# Altium schematic symbol library HerosLib.SchLib: 177 symbols (part 10 of 10)
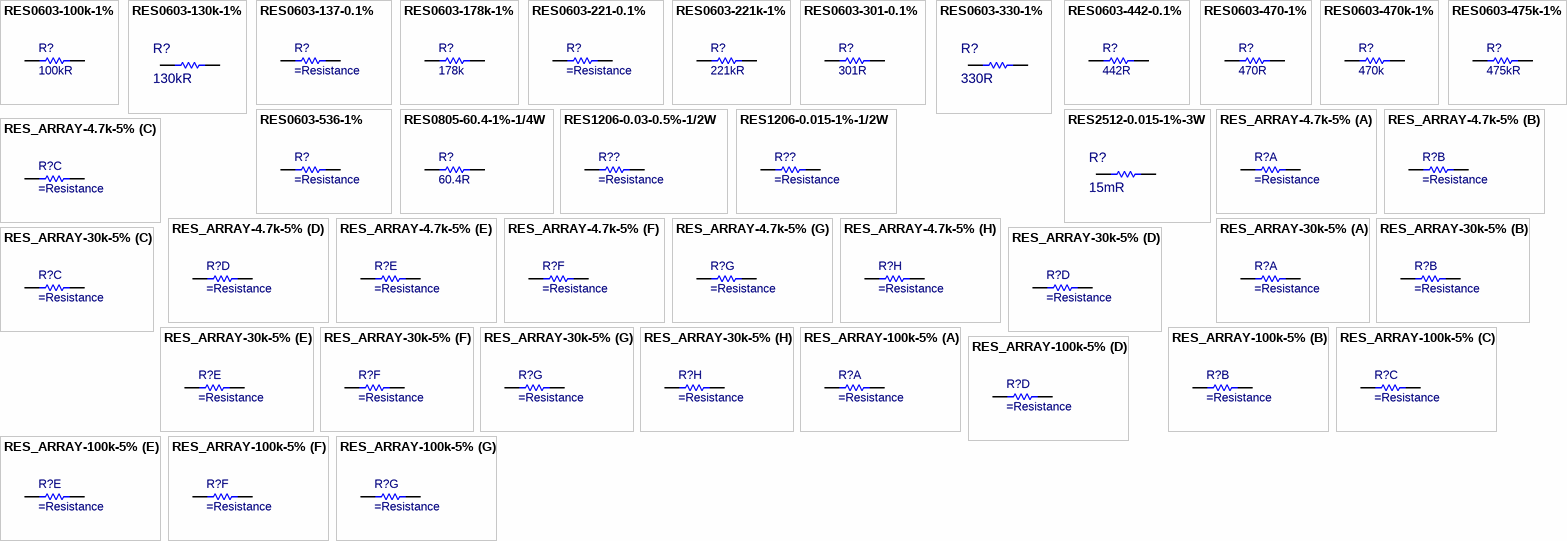
[diagram p17: symbols RES0603-100k-1% to RES_ARRAY-100k-5%]

## RES2512-0.015-1%-3W
designator R?, comment 15mR
RES 0.015 OHM 1% 3W 2512; Manufacturer: Bourns; Manufacturer Part Number: CRA2512-FZ-R015ELF; Temperature Coefficient: 75ppm/°C; Supplier 1: Digi-Key; RoHS: No; Category: Chip SMD Resistors; Stock 1: 20650; Pricing 1: 1=0.58000, 10=0.44800, 25=0.34120, 50=0.25360, 100=0.18850, 250=0.15924, 500=0.13650, 1000=0.10400 (USD); Mount: Surface Mount; Case/Package: 2512; Case Code (Metric): 6432; Case Code (Imperial): 2512; Min Operating Temperature: -55°C; Max Operating Temperature: 170°C; Resistor Type: Metal Film,Thick Film; Max Power Dissipation: 3W; Number of Terminations: 2; Termination: Solder; Features: Moisture Resistant; Resistance: 15mR; Power Rating: 3W; Tolerance: 1%; Packaging: Tape and Reel; Package Quantity: 1; Length: 0.254inch; Width: 0.126inch; Height: 0.035inch; Depth: 3.2mm; Lead Free: Lead Free; Military Standard: Not; REACH SVHC: No SVHC; ComponentLink1URL: https://datasheet.ciiva.com/11809/0900766b80ddce06-11809887.pdf?src-supplier=RSComponents; ComponentLink1Description: https://datasheet.ciiva.com/11809/0900766b80ddce06-11809887.pdf?src-supplier=RSComponents; ComponentLink2URL: https://datasheet.ciiva.com/6548/cra-6548395.pdf?src-supplier=Digi-Key; ComponentLink2Description: https://datasheet.ciiva.com/6548/cra-6548395.pdf?src-supplier=Digi-Key; ComponentLink3URL: https://datasheet.ciiva.com/6548/cra-6548411.pdf?src-supplier=Digi-Key; ComponentLink3Description: https://datasheet.ciiva.com/6548/cra-6548411.pdf?src-supplier=Digi-Key; ComponentLink4URL: https://datasheet.ciiva.com/6548/cra-6548413.pdf?src-supplier=Digi-Key; ComponentLink4Description: https://datasheet.ciiva.com/6548/cra-6548413.pdf?src-supplier=Digi-Key; ComponentLink5URL: https://datasheet.ciiva.com/48692/001055548-da-01-en-wid-cra2512-fz-r015elf-0-015-ohm-3w-1-48692039.pdf?src-supplier=Conrad; ComponentLink5Description: https://datasheet.ciiva.com/48692/001055548-da-01-en-wid-cra2512-fz-r015elf-0-015-ohm-3w-1-48692039.pdf?src-supplier=Conrad; Supplier Part Number 1: CRA2512-FZ-R015ELFCT-ND
footprint R2512 (0.254" L x 0.132" W (6.45mm x 3.35mm))
pins: 1, 2

## RES_ARRAY-4.7k-5%
designator R?
RES ARRAY 8 RES 4.7K OHM 1606; Manufacturer: Yageo; Manufacturer Part Number: YC248-FR-074K7L; Resistance: 4.7kR; Value: 4.7kR; Tolerance: 1%; Circuit Type: Isolated; Number of Resistors: 8; Power Per Element: 62.5mW; Temperature Coefficient: 200ppm/°C; Supplier: Digikey; Supplier Part Number: 13-YC248-FR-074K7LCT-ND; RoHS: Yes; Category: Resistor Arrays; Stock: 883; Pricing: 1=0,44, 10=0,246, 25=0,198, 50=0,169, 100=0,1448, 250=0,11888, 500=0,10302, 1000=0,08976 (USD); Mounting Technology: Surface Mount; Pins: 16; Min Operating Temperature: -55°C; Max Operating Temperature: 155°C; Packaging: Tape and Reel; Number of Circuits: 8; Series: YC248; RoHS Compliant: Yes; ComponentLink1URL: https://media.digikey.com/pdf/Data%20Sheets/Yageo%20PDFs/YC102-358,TC122-164_Series_DS.pdf?src-supplier=Digikey; ComponentLink1Description: https://media.digikey.com/pdf/Data%20Sheets/Yageo%20PDFs/YC102-358,TC122-164_Series_DS.pdf?src-supplier=Digikey; Supplier 1: Digikey; Supplier Part Number 1: 13-YC248-FR-074K7LCT-ND
footprint 8RES_ARRAY_YC248 (Chip Resistor Surface Mount, 8 Resistors, 4x1.6mm)
part A pins: 1, 16
part B pins: 2, 15
part C pins: 3, 14
part D pins: 4, 13
part E pins: 5, 12
part F pins: 6, 11
part G pins: 7, 10
part H pins: 8, 9

## RES_ARRAY-30k-5%
designator R?
RES ARRAY 8 RES 30K OHM 1606; Manufacturer: Yageo Group; Manufacturer Part Number: YC248-FR-0730KL; Resistance: 30kR; Value: 30kR; Circuit Type: Isolated; Number of Circuits: 8; Number of Elements: 1; Power Dissipation: 62.5mW; Temperature Coefficient: 200ppm/°C; Tolerance: 1%; Working Voltage: 50V; Supplier 1: DigiKey; Supplier Part Number 1: YC248-FR-0730KL-ND; Supplier: DigiKey; Supplier Part Number: YC248-FR-0730KL-ND; RoHS: Compliant; Category: Resistor Arrays; Pricing: 5000=0,0667 (USD); Case/Package: 0616; China RoHS: Non-Compliant; Height: 450µm; Length: 3.9878mm; Lifecycle Status: Production; Max Operating Temperature: 155°C; Min Operating Temperature: -55°C; Mounting Technology: Surface Mount; Pins: 16; Number of Resistors: 8; Number of Terminals: 16; Packaging: Tape & Reel; Power Per Element: 62.5mW; REACH SVHC: Yes; Width: 1.6mm; ComponentLink1URL: https://datasheet.octopart.com:443/YC248-FR-0730KL-Yageo-Group-datasheet-182189746.pdf?src-supplier=IHS; ComponentLink1Description: https://datasheet.octopart.com:443/YC248-FR-0730KL-Yageo-Group-datasheet-182189746.pdf?src-supplier=IHS; ComponentLink2URL: https://datasheet.octopart.com:443/YC248-FR-0730KL-Yageo-datasheet-165271777.pdf?src-supplier=IHS; ComponentLink2Description: https://datasheet.octopart.com:443/YC248-FR-0730KL-Yageo-datasheet-165271777.pdf?src-supplier=IHS; ComponentLink3URL: https://datasheet.octopart.com/YC248-FR-0730KL-Yageo-datasheet-10911670.pdf; ComponentLink3Description: https://datasheet.octopart.com/YC248-FR-0730KL-Yageo-datasheet-10911670.pdf; ComponentLink4URL: http://sigma.octopart.com:80/conflict_mineral_statement/Yageo-company-3.pdf?src-supplier=Compliance+Statements; ComponentLink4Description: http://sigma.octopart.com:80/conflict_mineral_statement/Yageo-company-3.pdf?src-supplier=Compliance+Statements; ComponentLink5URL: http://sigma.octopart.com:80/rohs_statement/Yageo-company-2.pdf?src-supplier=Compliance+Statements; ComponentLink5Description: http://sigma.octopart.com:80/rohs_statement/Yageo-company-2.pdf?src-supplier=Compliance+Statements
footprint 8RES_ARRAY_YC248 (Chip Resistor Surface Mount, 8 Resistors, 4x1.6mm)
part A pins: 1, 16
part B pins: 2, 15
part C pins: 3, 14
part D pins: 4, 13
part E pins: 5, 12
part F pins: 6, 11
part G pins: 7, 10
part H pins: 8, 9

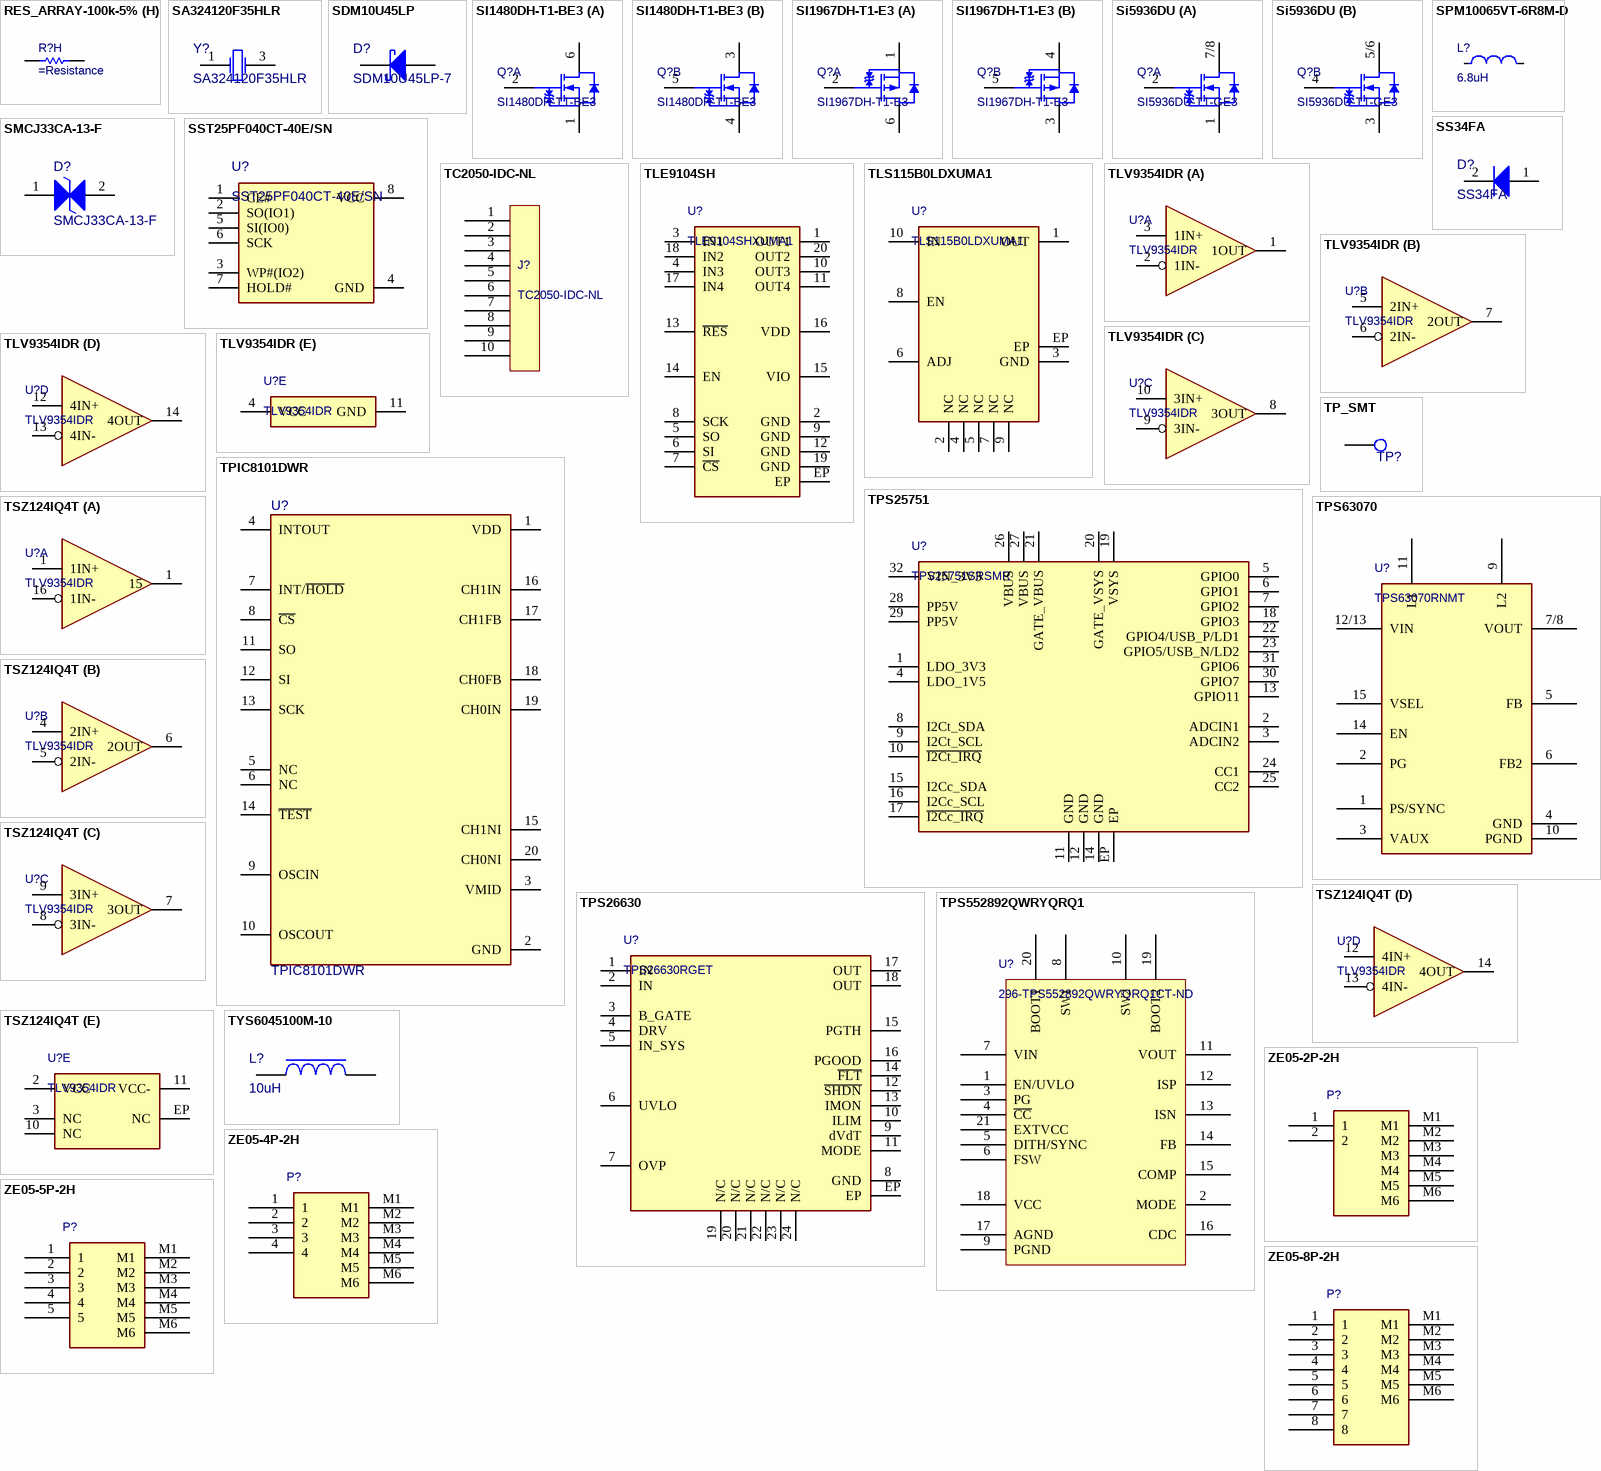
[diagram p8: symbols RES_ARRAY-100k-5% to ZE05-8P-2H]

## RES_ARRAY-100k-5%
designator R?
RES ARRAY 8 RES 100K OHM 1606; Manufacturer: Yageo; Manufacturer Part Number: YC248-FR-07100KL; Resistance: 100kR; Circuit Type: Isolated; Value: 100kR; Number of Resistors: 8; Power Per Element: 62.5mW; Tolerance: 1%; Temperature Coefficient: 200ppm/°C; Supplier: Digikey; Supplier Part Number: 13-YC248-FR-07100KLCT-ND; RoHS: Yes; Category: Resistor Arrays; Stock: 5000; Pricing: 1=0,44, 10=0,246, 25=0,198, 50=0,169, 100=0,1448, 250=0,11888, 500=0,10302, 1000=0,08976 (USD); Mounting Technology: Surface Mount; Case/Package: 0616; Pins: 16; Min Operating Temperature: -55°C; Max Operating Temperature: 155°C; Packaging: Tape and Reel; Number of Circuits: 8; Series: YC248; RoHS Compliant: Yes; ComponentLink1URL: https://media.digikey.com/pdf/Data%20Sheets/Yageo%20PDFs/YC102-358,TC122-164_Series_DS.pdf?src-supplier=Digikey; ComponentLink1Description: https://media.digikey.com/pdf/Data%20Sheets/Yageo%20PDFs/YC102-358,TC122-164_Series_DS.pdf?src-supplier=Digikey; Supplier 1: Digikey; Supplier Part Number 1: 13-YC248-FR-07100KLCT-ND
footprint 8RES_ARRAY_YC248 (Chip Resistor Surface Mount, 8 Resistors, 4x1.6mm)
part A pins: 1, 16
part B pins: 2, 15
part C pins: 3, 14
part D pins: 4, 13
part E pins: 5, 12
part F pins: 6, 11
part G pins: 7, 10
part H pins: 8, 9

## SA324120F35HLR
designator Y?
CRYSTAL 12.0000MHZ 12PF SMD; Manufacturer: CTS; Supplier 1: Digi-Key; Manufacturer Part Number: SA324120F35HLR; RoHS: Yes; Stock 1: 2994; Pricing 1: 1=0.51000, 10=0.42500, 50=0.38240, 100=0.34000, 500=0.32300, 1000=0.27200 (USD); Supplier Part Number 1: 110-SA324120F35HLRCT-ND; Case/Package: 4-SMD, No Lead
footprint SA324 (4-SMD, No Lead, 0.126" L x 0.098" W (3.20mm x 2.50mm))
pins: 1, 3

## SDM10U45LP
designator D?, comment SDM10U45LP-7
DIODE SCHOTTKY 40V 100MA 2DFN / Rectifier Diode Schottky 45V 0.1A 2-Pin X1-DFN T/R; Manufacturer: Diodes Inc.; Value: 15pF; Element Configuration: Single; Forward Voltage: 550mV; Max Forward Surge Current (Ifsm): 1A; Max Power Dissipation: 250mW; Number of Elements: 1; Peak Reverse Current: 1µA; Polarity: Standard; Supplier 1: DigiKey; Supplier Part Number 1: SDM10U45LPDICT-ND; Supplier: DigiKey; Supplier Part Number: SDM10U45LPDICT-ND; Manufacturer Part Number: SDM10U45LP-7; RoHS: Compliant; Category: Schottky Diodes; Stock: 35493; Pricing: 1=0,42, 10=0,28, 100=0,2285, 500=0,17242, 1000=0,15127 (USD); Average Rectified Current: 100mA; Case/Package: DFN; China RoHS: Compliant; Current Rating: 100mA; Forward Current: 100mA; Height: 470µm; Lead Free: Lead Free; Length: 1mm; Lifecycle Status: Production; Max Operating Temperature: 125°C; Max Output current: 100mA; Max Repetitive Reverse Voltage (Vrrm): 45V; Max Reverse Voltage (DC): 40V; Min Operating Temperature: -40°C; Mounting Technology: Surface Mount; Pins: 2; Number of Terminals: 2; Output Current: 100mA; Packaging: Cut Tape; Peak Non-Repetitive Surge Current: 1A; Power Rating: 250mW; Radiation Hardening: No; REACH SVHC: Yes; Reverse Standoff Voltage: 45V; Schedule B: 8541100070, 8541100070|8541100070, 8541100070|8541100070|8541100070, 8541100070|8541100070|8541100070|8541100070; Voltage Rating (DC): 45V; Width: 600µm; ComponentLink1URL: https://datasheet.octopart.com:443/SDM10U45LP-7-Diodes-Inc.-datasheet-102813284.pdf?src-supplier=IHS; ComponentLink1Description: https://datasheet.octopart.com:443/SDM10U45LP-7-Diodes-Inc.-datasheet-102813284.pdf?src-supplier=IHS; ComponentLink2URL: https://datasheet.octopart.com/SDM10U45LP-7-Diodes-Inc.-datasheet-13703157.pdf; ComponentLink2Description: https://datasheet.octopart.com/SDM10U45LP-7-Diodes-Inc.-datasheet-13703157.pdf; ComponentLink3URL: https://datasheet.octopart.com:443/SDM10U45LP-7-Diodes-Inc.-datasheet-101745850.pdf?src-supplier=Future+Electronics; ComponentLink3Description: https://datasheet.octopart.com:443/SDM10U45LP-7-Diodes-Inc.-datasheet-101745850.pdf?src-supplier=Future+Electronics; ComponentLink4URL: https://sigma.octopart.com:443/138891837/technical_drawing/Diodes-Inc.-SDM10U45LP-7.pdf?src-supplier=Diodes+Inc+SCT; ComponentLink4Description: https://sigma.octopart.com:443/138891837/technical_drawing/Diodes-Inc.-SDM10U45LP-7.pdf?src-supplier=Diodes+Inc+SCT; ComponentLink5URL: https://datasheet.octopart.com:443/SDM10U45LP-7-Diodes-Inc.-datasheet-11796308.pdf?src-supplier=Arrow+Electronics; ComponentLink5Description: https://datasheet.octopart.com:443/SDM10U45LP-7-Diodes-Inc.-datasheet-11796308.pdf?src-supplier=Arrow+Electronics; ComponentLink6URL: https://datasheet.octopart.com:443/SDM10U45LP-7-Diodes-Inc.-datasheet-14053860.pdf?src-supplier=iiiC; ComponentLink6Description: https://datasheet.octopart.com:443/SDM10U45LP-7-Diodes-Inc.-datasheet-14053860.pdf?src-supplier=iiiC; ComponentLink7URL: https://datasheet.octopart.com:443/SDM10U45LP-7-Diodes-Inc.-datasheet-30023.pdf?src-supplier=DigiKey; ComponentLink7Description: https://datasheet.octopart.com:443/SDM10U45LP-7-Diodes-Inc.-datasheet-30023.pdf?src-supplier=DigiKey
footprint SOD-123 (SOD, 2-Leads, Body 2.69x1.6mm)
pins: 1, 2

## SI1480DH-T1-BE3
designator Q?
MOSFET N-CH 100V 2.1A/2.6A SC70; Manufacturer: Vishay; Supplier: Digikey; Supplier Part Number: 742-SI1480DH-T1-BE3CT-ND; Manufacturer Part Number: SI1480DH-T1-BE3; RoHS: No; Category: LDO; Stock: 2407; Pricing: 1=0,43, 10=0,335, 100=0,2723, 500=0,23268, 1000=0,20191 (USD); Supplier 1: Digikey; Supplier Part Number 1: 742-SI1480DH-T1-BE3CT-ND
footprint SOT-363 (6 pin, 2x2.1mm)
part A pins: 1 S1, 2 G1, 6 D1
part B pins: 3 D2, 4 S2, 5 G2

## SI1967DH-T1-E3
designator Q?
MOSFET 2P-CH 20V 1.3A SC70-6; Manufacturer: Vishay Siliconix; Rise Time: 27ns; Rds On Max: 490mR; Input Capacitance: 110pF; Gate to Source Voltage (Vgs): 8V; Max Power Dissipation: 1.25W; Turn-Off Delay Time: 15ns; Turn-On Delay Time: 12ns; Number of Channels: 2; Polarity: P-CHANNEL; Supplier 1: Digikey; Supplier Part Number 1: SI1967DH-T1-E3CT-ND; Supplier: Digikey; Supplier Part Number: SI1967DH-T1-E3CT-ND; Manufacturer Part Number: SI1967DH-T1-E3; RoHS: No; Category: MOSFETs; Stock: 6717; Pricing: 1=0,66, 10=0,409, 100=0,2622, 500=0,19876, 1000=0,16922 (USD); Mounting Technology: Surface Mount; Weight: 0.000988oz; Min Operating Temperature: -55°C; Max Operating Temperature: 150°C; Packaging: Tape and Reel; Package Quantity: 3000; Continuous Drain Current (ID): 1.3A; Drain to Source Resistance: 490mR; Fall Time: 27ns; Drain to Source Voltage (Vdss): 20V; Series: TrenchFET®; Length: 2mm; Width: 1.25mm; Height: 1mm; Radiation Hardening: No; Lead Free: Lead Free; RoHS Compliant: Yes; ComponentLink1URL: https://datasheet.ciiva.com/930/si1967dh-930084.pdf?src-supplier=Digikey; ComponentLink1Description: https://datasheet.ciiva.com/930/si1967dh-930084.pdf?src-supplier=Digikey; ComponentLink2URL: https://datasheet.ciiva.com/11161/si1967dh-11161099.pdf?src-supplier=Avnet; ComponentLink2Description: https://datasheet.ciiva.com/11161/si1967dh-11161099.pdf?src-supplier=Avnet
footprint SOT-363 (6 pin, 2x2.1mm)
part A pins: 1 S, 2 G, 6 D
part B pins: 3 D, 4 S, 5 G

## Si5936DU
designator Q?, comment SI5936DU-T1-GE3
SI5936DU-T1-GE3 Dual N-channel Mosfet Transistor, 6 A, 30V, 8-PIN Powerpak Chipfet; Manufacturer: Vishay; Continuous Drain Current (ID): 6A; Drain to Source Resistance: 30mΩ; Fall Time: 10ns; Gate to Source Voltage (Vgs): 20V; Input Capacitance: 320pF; Max Power Dissipation: 2.3W; Number of Elements: 2; Rise Time: 65ns; Turn-Off Delay Time: 15ns; Supplier 1: DigiKey; Supplier Part Number 1: SI5936DU-T1-GE3CT-ND; Supplier: DigiKey; Supplier Part Number: SI5936DU-T1-GE3CT-ND; Manufacturer Part Number: SI5936DU-T1-GE3; RoHS: Compliant; Category: MOSFETs; Stock: 5251; Pricing: 1=1,04, 10=0,651, 100=0,4257, 500=0,32864, 1000=0,29737 (USD); Contact Plating: Tin; Drain to Source Voltage (Vdss): 30V; Height: 850µm; Length: 3.08mm; Lifecycle Status: Production; Max Operating Temperature: 150°C; Min Breakdown Voltage: 30V; Min Operating Temperature: -55°C; Mounting Technology: Surface Mount; Pins: 8; Number of Terminals: 6; Packaging: Digi-Reel®; Power Dissipation: 2.3W; Rds On Max: 30mΩ; REACH SVHC: Yes; Schedule B: 8541290080, 8541290080|8541290080|8541290080|8541290080|8541290080; Turn-On Delay Time: 15ns; Width: 1.98mm; ComponentLink1URL: https://datasheet.octopart.com:443/SI5936DU-T1-GE3-Vishay-datasheet-181472184.pdf?src-supplier=IHS; ComponentLink1Description: https://datasheet.octopart.com:443/SI5936DU-T1-GE3-Vishay-datasheet-181472184.pdf?src-supplier=IHS; ComponentLink2URL: https://datasheet.octopart.com:443/SI5936DU-T1-GE3-Vishay-Siliconix-datasheet-62309622.pdf?src-supplier=RS+(Formerly+Allied+Electronics); ComponentLink2Description: https://datasheet.octopart.com:443/SI5936DU-T1-GE3-Vishay-Siliconix-datasheet-62309622.pdf?src-supplier=RS+(Formerly+Allied+Electronics); ComponentLink3URL: https://datasheet.octopart.com:443/SI5936DU-T1-GE3-Vishay-datasheet-41308924.pdf?src-supplier=Future+Electronics; ComponentLink3Description: https://datasheet.octopart.com:443/SI5936DU-T1-GE3-Vishay-datasheet-41308924.pdf?src-supplier=Future+Electronics; ComponentLink4URL: http://sigma.octopart.com:80/rohs_statement/Vishay-company-15.pdf?src-supplier=Compliance+Statements; ComponentLink4Description: http://sigma.octopart.com:80/rohs_statement/Vishay-company-15.pdf?src-supplier=Compliance+Statements
footprint ChipFET-8-dual (PowerPAK® ChipFET® Dual, 1.9x3mm)
part A pins: 1 S1, 2 G1, 7/8 D1
part B pins: 3 S2, 4 G2, 5/6 D2

## SMCJ33CA-13-F
designator D?
TVS DIODE 33VWM 53.3VC SMC; Manufacturer: Diodes; ComponentLink1URL: https://datasheet.ciiva.com/15143/getdatasheetpartid-128184-15143616.pdf?src-supplier=Verical; ComponentLink1Description: https://datasheet.ciiva.com/15143/getdatasheetpartid-128184-15143616.pdf?src-supplier=Verical; ComponentLink2URL: https://datasheet.ciiva.com/339/cd00001367-339200.pdf?src-supplier=Digi-Key; ComponentLink2Description: https://datasheet.ciiva.com/339/cd00001367-339200.pdf?src-supplier=Digi-Key; ComponentLink3URL: https://datasheet.ciiva.com/339/cd00001367-339201.pdf?src-supplier=Digi-Key; ComponentLink3Description: https://datasheet.ciiva.com/339/cd00001367-339201.pdf?src-supplier=Digi-Key; ComponentLink4URL: https://datasheet.ciiva.com/16349/cd00001367-16349254.pdf?src-supplier=Future+Electronics; ComponentLink4Description: https://datasheet.ciiva.com/16349/cd00001367-16349254.pdf?src-supplier=Future+Electronics; ComponentLink5URL: https://datasheet.ciiva.com/7973/cd00001367-7973623.pdf?src-supplier=Element14; ComponentLink5Description: https://datasheet.ciiva.com/7973/cd00001367-7973623.pdf?src-supplier=Element14; ComponentLink6URL: https://datasheet.ciiva.com/17400/cd00001367-17400765.pdf?src-supplier=Avnet+Europe; ComponentLink6Description: https://datasheet.ciiva.com/17400/cd00001367-17400765.pdf?src-supplier=Avnet+Europe; ComponentLink7URL: https://datasheet.ciiva.com/339/cd00001367-339199.pdf?src-supplier=Digi-Key; ComponentLink7Description: https://datasheet.ciiva.com/339/cd00001367-339199.pdf?src-supplier=Digi-Key; ComponentLink8URL: https://datasheet.ciiva.com/41443/001183976-da-01-en-transil-1500w-3-smcj30ca-tr-do-214ab-stm-41443381.pdf?src-supplier=Conrad; ComponentLink8Description: https://datasheet.ciiva.com/41443/001183976-da-01-en-transil-1500w-3-smcj30ca-tr-do-214ab-stm-41443381.pdf?src-supplier=Conrad; Supplier 1: Digikey; Supplier Part Number 1: SMCJ33CA-FDICT-ND; Supplier: Farnell; Supplier Part Number: 3405098; Manufacturer Part Number: SMCJ33CA-13-F; RoHS: Yes; Category: TVS Diodes; Stock: 3845; ComponentLink9URL: http://www.mouser.com/ds/2/115/ds19003-73575.pdf?src-supplier=Mouser; ComponentLink9Description: http://www.mouser.com/ds/2/115/ds19003-73575.pdf?src-supplier=Mouser; ComponentLink10URL: http://components.arrow.com/part/dataview/41510117S9851208N2867?src-supplier=Arrow+Electronics; ComponentLink10Description: http://components.arrow.com/part/dataview/41510117S9851208N2867?src-supplier=Arrow+Electronics; ComponentLink11URL: http://www.diodes.com/_files/datasheets/ds19003.pdf?src-supplier=Future+Electronics; ComponentLink11Description: http://www.diodes.com/_files/datasheets/ds19003.pdf?src-supplier=Future+Electronics; ComponentLink12URL: https://www.diodes.com/assets/Datasheets/ds19003.pdf?src-supplier=Digikey; ComponentLink12Description: https://www.diodes.com/assets/Datasheets/ds19003.pdf?src-supplier=Digikey; ComponentLink13URL: https://datasheet.octopart.com/SMCJ33CA-13-F-Diodes-Inc.-datasheet-6912.pdf?src-supplier=Digikey; ComponentLink13Description: https://datasheet.octopart.com/SMCJ33CA-13-F-Diodes-Inc.-datasheet-6912.pdf?src-supplier=Digikey; ComponentLink14URL: http://www.diodes.com///datasheets/ds19003.pdf?src-supplier=Avnet; ComponentLink14Description: http://www.diodes.com///datasheets/ds19003.pdf?src-supplier=Avnet; ComponentLink15URL: http://www.diodes.com//datasheets/ds19003.pdf?src-supplier=Avnet; ComponentLink15Description: http://www.diodes.com//datasheets/ds19003.pdf?src-supplier=Avnet; ComponentLink16URL: https://datasheet.octopart.com/SMCJ33CA-13-F-Diodes-Inc.-datasheet-130126529.pdf?src-supplier=TME; ComponentLink16Description: https://datasheet.octopart.com/SMCJ33CA-13-F-Diodes-Inc.-datasheet-130126529.pdf?src-supplier=TME
footprint SMCJ_UNIPOLAR (DO-214AB, SMC)
pins: 1, 2

## SPM10065VT-6R8M-D
designator L?, comment 6.8uH
FIXED IND 6.8UH 10.2A 0.0133OHM; Manufacturer: TDK; Manufacturer Part Number: SPM10065VT-6R8M-D; Core Material: Metal,Composite; Tolerance: 20%; Saturation Current: 15.8A; Shielding: Shielded; DC Resistance (DCR): 13.3mR; Test Frequency: 100kHz; Supplier: Mouser; Supplier Part Number: 810-SPM10065VT-6R8MD; RoHS: Yes; Category: Fixed Inductors; Stock: 1418; Pricing: 1=1,49, 10=1,13, 50=1,13, 100=0,896, 1000=0,711, 10000=0,568 (USD); Mounting Technology: Surface Mount; Case/Package: Nonstandard; Min Operating Temperature: -55°C; Max Operating Temperature: 155°C; Series: SPM-VT-D; Value: 6.8uH; Ratings: AEC-Q200; RoHS Compliant: Yes; Inductance: 6.8uH; Supplier 1: Digikey; Supplier Part Number 1: 445-SPM10065VT-6R8M-DCT-ND
footprint 1006 (1006 / 10,50mm x 10,00mm)
pins: 1, 2

## SS34FA
designator D?
DIODE SCHOTTKY 40V 3A SOD123FA; Manufacturer: onsemi; Element Configuration: Single; Max Forward Surge Current (Ifsm): 80A; Value: 152pF; Max Reverse Current: 500uA; Supplier: Digikey; Supplier Part Number: SS34FACT-ND; Manufacturer Part Number: SS34FA; RoHS: Yes; Category: Schottky Diodes; Stock: 15253; Pricing: 1=0,36, 10=0,333, 100=0,2863, 500=0,21774, 1000=0,1861 (USD); Mounting Technology: Surface Mount; Case/Package: SOD; Weight: 0.019g; Min Operating Temperature: -55°C; Max Operating Temperature: 125°C; Average Rectified Current: 3A; Max Reverse Voltage (DC): 40V; Series: Automotive, AEC-Q101; Packaging: Cut Tape; Max Repetitive Reverse Voltage (Vrrm): 40V; Forward Current: 3A; Reverse Voltage: 40V; Height: 1.43mm; RoHS Compliant: Yes; ComponentLink1URL: http://www.farnell.com/datasheets/2552647.pdf?src-supplier=Farnell; ComponentLink1Description: http://www.farnell.com/datasheets/2552647.pdf?src-supplier=Farnell; ComponentLink2URL: http://www.mouser.com/ds/2/149/SS34FA-1012641.pdf?src-supplier=Mouser; ComponentLink2Description: http://www.mouser.com/ds/2/149/SS34FA-1012641.pdf?src-supplier=Mouser; ComponentLink3URL: http://www.farnell.com/datasheets/2552647.pdf?src-supplier=Element14; ComponentLink3Description: http://www.farnell.com/datasheets/2552647.pdf?src-supplier=Element14; ComponentLink4URL: http://www.farnell.com/datasheets/2552647.pdf?src-supplier=Newark; ComponentLink4Description: http://www.farnell.com/datasheets/2552647.pdf?src-supplier=Newark; ComponentLink5URL: https://datasheet.octopart.com/SS34FA-ON-Semiconductor-datasheet-137713515.pdf?src-supplier=TME; ComponentLink5Description: https://datasheet.octopart.com/SS34FA-ON-Semiconductor-datasheet-137713515.pdf?src-supplier=TME; ComponentLink6URL: https://datasheet.octopart.com/SS34FA-ON-Semiconductor-datasheet-137362515.pdf?src-supplier=Electro+Sonic; ComponentLink6Description: https://datasheet.octopart.com/SS34FA-ON-Semiconductor-datasheet-137362515.pdf?src-supplier=Electro+Sonic; Supplier 1: Digikey; Supplier Part Number 1: SS34FACT-ND
footprint SOD-123 (SOD, 2-Leads, Body 2.69x1.6mm)
pins: 1, 2

## SST25PF040CT-40E/SN
designator U?
IC FLASH 4MBIT SPI 40MHZ 8SOIC; Manufacturer: Microchip; Supplier: DigiKey; Supplier Part Number: SST25PF040CT-40E/SNCT-ND; Manufacturer Part Number: SST25PF040CT-40E/SN; RoHS: Compliant; Category: Flash; Stock: 8162; Pricing: 1=1,39 (USD); Projected EOL Date: 2044-04-05; Case/Package: SOIC; Country of Assembly: Thailand; Country of Fabrication: China; Country of Origin: Taiwan, Thailand; Export Control Classification Number (ECCN) Code: EAR99; Harmonized Tariff Schedule (HTS) Code: 8542.32.0051; Introduction Date: 2019-04-05; Lifecycle Status: Production; Pins: 8; ComponentLink1URL: https://datasheet.octopart.com:443/SST25PF040CT-40E-SN-Microchip-datasheet-147335944.pdf?src-supplier=Future+Electronics; ComponentLink1Description: https://datasheet.octopart.com:443/SST25PF040CT-40E-SN-Microchip-datasheet-147335944.pdf?src-supplier=Future+Electronics; ComponentLink2URL: https://datasheet.octopart.com:443/SST25PF040CT-40E-SN-Microchip-datasheet-160579706.pdf?src-supplier=Electro+Sonic; ComponentLink2Description: https://datasheet.octopart.com:443/SST25PF040CT-40E-SN-Microchip-datasheet-160579706.pdf?src-supplier=Electro+Sonic; ComponentLink3URL: http://sigma.octopart.com:80/188449173/materials_sheet/Microchip-SST25PF040CT-40E-SN.pdf?src-supplier=Compliance+Statements; ComponentLink3Description: http://sigma.octopart.com:80/188449173/materials_sheet/Microchip-SST25PF040CT-40E-SN.pdf?src-supplier=Compliance+Statements; ComponentLink4URL: http://sigma.octopart.com:80/conflict_mineral_statement/Microchip-company-68.pdf?src-supplier=Compliance+Statements; ComponentLink4Description: http://sigma.octopart.com:80/conflict_mineral_statement/Microchip-company-68.pdf?src-supplier=Compliance+Statements; ComponentLink5URL: http://sigma.octopart.com:80/conflict_mineral_statement/Microchip-company-69.pdf?src-supplier=Compliance+Statements; ComponentLink5Description: http://sigma.octopart.com:80/conflict_mineral_statement/Microchip-company-69.pdf?src-supplier=Compliance+Statements; ComponentLink6URL: http://sigma.octopart.com:80/reach_statement/Microchip-company-70.pdf?src-supplier=Compliance+Statements; ComponentLink6Description: http://sigma.octopart.com:80/reach_statement/Microchip-company-70.pdf?src-supplier=Compliance+Statements; ComponentLink7URL: http://sigma.octopart.com:80/rohs_statement/Microchip-company-71.pdf?src-supplier=Compliance+Statements; ComponentLink7Description: http://sigma.octopart.com:80/rohs_statement/Microchip-company-71.pdf?src-supplier=Compliance+Statements; Supplier 1: DigiKey; Supplier Part Number 1: SST25PF040CT-40E/SNCT-ND
footprint SOIC8 (8-SOIC (0.154", 3.90mm Width))
pins: 1 CE#, 2 SO(IO1), 3 WP#(IO2), 4 GND, 5 SI(IO0), 6 SCK, 7 HOLD#, 8 VCC

## TC2050-IDC-NL
designator J?  (no BOM)
TagConnect TC2050-IDC-NL
footprint TC2050-IDC-NL
pins: 1, 2, 3, 4, 5, 6, 7, 8, 9, 10

## TLE9104SH
designator U?, comment TLE9104SHXUMA1
IC POWERTRAIN SWITCH DSO20-88; Manufacturer: Infineon; Number of Channels: 4; Max Dual Supply Voltage: 60V; Max Supply Voltage: 5.5V; Number of Outputs: 1; Min Supply Voltage: 3V; Nominal Supply Current: 10mA; Output Current: 3A; Supplier: Farnell; Supplier Part Number: 2888758; Manufacturer Part Number: TLE9104SHXUMA1; RoHS: Yes; Category: Power Management ICs; Stock: 1663; Mounting Technology: Surface Mount; Min Operating Temperature: -40°C; Max Operating Temperature: 150°C; Drain to Source Voltage (Vdss): 60V; Packaging: Cut Tape; Series: Automotive, AEC-Q100; Nominal Supply Voltage: 5.5V; Height: 2.6mm; Lead Free: Lead Free; Halogen Free: Halogen Free; RoHS Compliant: Yes; ComponentLink1URL: https://media.digikey.com/pdf/Data%20Sheets/Infineon%20PDFs/TLE9104SH_Rev1.3_6-5-20.pdf?src-supplier=Digikey; ComponentLink1Description: https://media.digikey.com/pdf/Data%20Sheets/Infineon%20PDFs/TLE9104SH_Rev1.3_6-5-20.pdf?src-supplier=Digikey; ComponentLink2URL: https://datasheet.octopart.com/TLE9104SHXUMA1-Infineon-datasheet-112076141.pdf?src-supplier=Newark; ComponentLink2Description: https://datasheet.octopart.com/TLE9104SHXUMA1-Infineon-datasheet-112076141.pdf?src-supplier=Newark; Supplier 1: Mouser; Supplier Part Number 1: 726-TLE9104SHXUMA1
footprint PG-DSO-20-88 (7.8 L x 7.5 mm)
pins: 1 OUT1, 2 GND, 3 IN1, 4 IN3, 5 SO, 6 SI, 7 ~{CS}, 8 SCK, 9 GND, 10 OUT3, 11 OUT4, 12 GND, 13 ~{RES}, 14 EN, 15 VIO, 16 VDD, 17 IN4, 18 IN2, 19 GND, 20 OUT2, EP

## TLS115B0LDXUMA1
designator U?
Adjustable Positive LDO Regulator, 2V Min, 40V Max, 0.5V Dropout, PDSO10; Manufacturer: Infineon; Accuracy: 0.1%; Dropout Voltage: 250mV; Max Junction Temperature (Tj): 150°C; Max Supply Voltage: 45V; Min Supply Voltage: 4V; Number of Circuits: 1; Output Current: 150mA; Supplier 1: DigiKey; Supplier Part Number 1: TLS115B0LDXUMA1CT-ND; Supplier: DigiKey; Supplier Part Number: TLS115B0LDXUMA1CT-ND; Manufacturer Part Number: TLS115B0LDXUMA1; RoHS: Compliant; Category: LDO Voltage Regulators; Stock: 460; Pricing: 1=1,56, 10=1,14, 25=1,0352, 100=0,9196, 250=0,8646, 500=0,83144, 1000=0,80413, 2500=0,77531 (USD); China RoHS: Compliant; Height: 1.05mm; Height - Seated (Max): 1.15mm; Length: 3.3mm; Lifecycle Status: Production; Max Operating Temperature: 150°C; Min Operating Temperature: -40°C; Number of Outputs: 1; Number of Terminals: 10; Output Type: Adjustable; Package Quantity: 5000; Packaging: Tape & Reel; REACH SVHC: Yes; Terminal Pitch: 500µm; Width: 3.3mm; ComponentLink1URL: https://datasheet.octopart.com:443/TLS115B0LDXUMA1-Infineon-datasheet-95778597.pdf?src-supplier=IHS; ComponentLink1Description: https://datasheet.octopart.com:443/TLS115B0LDXUMA1-Infineon-datasheet-95778597.pdf?src-supplier=IHS; ComponentLink2URL: http://sigma.octopart.com:80/conflict_mineral_statement/Infineon-company-51.pdf?src-supplier=Compliance+Statements; ComponentLink2Description: http://sigma.octopart.com:80/conflict_mineral_statement/Infineon-company-51.pdf?src-supplier=Compliance+Statements
footprint TSON10 (3.3x3.3mm)
pins: 1 OUT, 2 NC, 3 GND, 4 NC, 5 NC, 6 ADJ, 7 NC, 8 EN, 9 NC, 10 IN, EP

## TLV9354IDR
designator U?
IC OPAMP GP 4 CIRCUIT 14SOIC; Manufacturer: Texas Instruments; Manufacturer Part Number: TLV9354IDR; RoHS: No; Category: Amplifiers - Op Amps, Buffer, Instrumentation; Stock: 8863; Pricing: 1=1,35, 10=0,984, 50=0,892, 100=0,791, 1000=0,664, 10000=0,622 (USD); Case/Package: 69Case; Pins: 14NUMBER; Length: 8.65mm; Width: 3.91mm; Height: 1.75mm; Thickness: 1.58mm; Supplier 1: Digikey; Supplier Part Number 1: 296-TLV9354IDRCT-ND
footprint SOIC14 (14 -SOIC (0.154", 3.90mm Width))
part A pins: 1 1OUT, 2 1IN-, 3 1IN+
part B pins: 5 2IN+, 6 2IN-, 7 2OUT
part C pins: 8 3OUT, 9 3IN-, 10 3IN+
part D pins: 12 4IN+, 13 4IN-, 14 4OUT
part E pins: 4 VCC (power), 11 GND (power)

## TP_SMT
designator TP?  (value not drawn)  (no BOM)
TEST POINT
footprint TP_SMT (Test Point, Surface Mounting, Circular, Pad diameter 1mm)
pins: 1

## TPIC8101DWR
designator U?
IC KNOCK SENSOR INTERFACE 20SOIC; Manufacturer: Texas Instruments; Min Supply Voltage: -300mV; Number of Channels: 2NUMBER; Supplier: Digikey; Supplier Part Number: 296-15132-1-ND; Manufacturer Part Number: TPIC8101DWR; RoHS: Yes; Category: UART Interface ICs; Stock: 620; Pricing: 1=6,57, 10=5,049, 25=4,6704, 100=4,254, 250=4,0554, 500=3,9357, 1000=3,83717 (USD); Length: 12.8mm; Width: 7.5mm; Height: 2.65mm; Thickness: 2.35mm; Lead Free: 5697LeadFree; ComponentLink1URL: https://datasheet.ciiva.com/41460/001187892-da-01-en-ic-knock-sensor-tpic8101dwr-soic-20-tid-41460564.pdf?src-supplier=Conrad; ComponentLink1Description: https://datasheet.ciiva.com/41460/001187892-da-01-en-ic-knock-sensor-tpic8101dwr-soic-20-tid-41460564.pdf?src-supplier=Conrad; ComponentLink2URL: https://datasheet.ciiva.com/14194/tpic8101-14194621.pdf?src-supplier=Avnet; ComponentLink2Description: https://datasheet.ciiva.com/14194/tpic8101-14194621.pdf?src-supplier=Avnet; ComponentLink3URL: https://datasheet.ciiva.com/1781/tpic8101-1781697.pdf?src-supplier=Digikey; ComponentLink3Description: https://datasheet.ciiva.com/1781/tpic8101-1781697.pdf?src-supplier=Digikey; ComponentLink4URL: https://datasheet.ciiva.com/1781/tpic8101-1781698.pdf?src-supplier=Digikey; ComponentLink4Description: https://datasheet.ciiva.com/1781/tpic8101-1781698.pdf?src-supplier=Digikey; ComponentLink5URL: https://datasheet.ciiva.com/1781/tpic8101-1781699.pdf?src-supplier=Digikey; ComponentLink5Description: https://datasheet.ciiva.com/1781/tpic8101-1781699.pdf?src-supplier=Digikey; Supplier 1: Digikey; Supplier Part Number 1: 296-15132-1-ND
footprint SOIC20 (20-SOIC (0.295", 7.50mm Width))
pins: 1 VDD, 2 GND, 3 VMID, 4 INTOUT, 5 NC, 6 NC, 7 INT/~{HOLD}, 8 ~{CS}, 9 OSCIN, 10 OSCOUT, 11 SO, 12 SI, 13 SCK, 14 ~{TEST}, 15 CH1NI, 16 CH1IN, 17 CH1FB, 18 CH0FB, 19 CH0IN, 20 CH0NI

## TPS25751
designator U?, comment TPS25751SRSMR
USB-C® Power Delivery 3.2 controller with moisture detection and programmable power-supply 32-VQFN -40 to 125; Manufacturer: Texas Instruments; Manufacturer Lifecycle Status: ACTIVE; Supplier 1: DigiKey; Supplier Part Number 1: 296-TPS25751SRSMRCT-ND; Supplier: DigiKey; Supplier Part Number: 296-TPS25751SRSMRCT-ND; Manufacturer Part Number: TPS25751SRSMR; RoHS: Compliant; Category: Power Management - Specialized; Stock: 4587; Pricing: 1=2,58, 10=1,92, 25=1,7556, 100=1,5741, 250=1,48764, 500=1,4355, 1000=1,39259 (USD); Case/Package: VQFN; Height: 1mm; Length: 4mm; Lifecycle Status: Production; Pins: 32; Thickness: 900µm; Width: 4mm; ComponentLink1URL: https://octopart.com:443/opatz8j6/c1?t=V2t5ESQ_Tip2GgxlC33nyzC3pdVGaardFh6bgI_iPSFWDQAkArSNiOl8Ruod-t2DRERWznG4ucorzmbOe_SXhnTPbC-7IzxoBBFt_oUtG4oOEceRJMGCB5I-qiUrFgIDJWY6l5pcEuiIkeOC_YhdTjY7X0AXlPAMhq1b5-PYi9P0NoLTjIyL9mDwlrFpzvWzJ7Lk-GbX2L_rbqISyZE4P5qHIWJzUtIJAqQnpHHaVsexxIehtyS81x742SglJcby1PDf1rf3ClbH4TN-vipzgiZlMSzZwcI7bsfNdoqdYuu6WcQFrf6O1ksJcOmaSMJzTjpzZjoMZFYtXneSwn1aPVCpTf9b4wAIQDfoXdef2Koa8NpBe_dQc7-qOqtF-MpDdfPYRC4w&src-supplier=Texas+Instruments; ComponentLink1Description: https://octopart.com:443/opatz8j6/c1?t=V2t5ESQ_Tip2GgxlC33nyzC3pdVGaardFh6bgI_iPSFWDQAkArSNiOl8Ruod-t2DRERWznG4ucorzmbOe_SXhnTPbC-7IzxoBBFt_oUtG4oOEceRJMGCB5I-qiUrFgIDJWY6l5pcEuiIkeOC_YhdTjY7X0AXlPAMhq1b5-PYi9P0NoLTjIyL9mDwlrFpzvWzJ7Lk-GbX2L_rbqISyZE4P5qHIWJzUtIJAqQnpHHaVsexxIehtyS81x742SglJcby1PDf1rf3ClbH4TN-vipzgiZlMSzZwcI7bsfNdoqdYuu6WcQFrf6O1ksJcOmaSMJzTjpzZjoMZFYtXneSwn1aPVCpTf9b4wAIQDfoXdef2Koa8NpBe_dQc7-qOqtF-MpDdfPYRC4w&src-supplier=Texas+Instruments; ComponentLink2URL: https://datasheet.octopart.com:443/TPS25751SRSMR-Texas-Instruments-datasheet-182781597.pdf?src-supplier=LCSC; ComponentLink2Description: https://datasheet.octopart.com:443/TPS25751SRSMR-Texas-Instruments-datasheet-182781597.pdf?src-supplier=LCSC; ComponentLink3URL: http://sigma.octopart.com:80/conflict_mineral_statement/Texas-Instruments-company-63.pdf?src-supplier=Compliance+Statements; ComponentLink3Description: http://sigma.octopart.com:80/conflict_mineral_statement/Texas-Instruments-company-63.pdf?src-supplier=Compliance+Statements; ComponentLink4URL: http://sigma.octopart.com:80/reach_statement/Texas-Instruments-company-64.pdf?src-supplier=Compliance+Statements; ComponentLink4Description: http://sigma.octopart.com:80/reach_statement/Texas-Instruments-company-64.pdf?src-supplier=Compliance+Statements
footprint VQFN32 (VQFN, 32-Leads, Body 5x5mm)
pins: 1 LDO_3V3, 2 ADCIN1, 3 ADCIN2, 4 LDO_1V5, 5 GPIO0, 6 GPIO1, 7 GPIO2, 8 I2Ct_SDA, 9 I2Ct_SCL, 10 ~{I2Ct_IRQ}, 11 GND, 12 GND, 13 GPIO11, 14 GND, 15 I2Cc_SDA, 16 I2Cc_SCL, 17 ~{I2Cc_IRQ}, 18 GPIO3, 19 VSYS, 20 GATE_VSYS, 21 GATE_VBUS, 22 GPIO4/USB_P/LD1, 23 GPIO5/USB_N/LD2, 24 CC1, 25 CC2, 26 VBUS, 27 VBUS, 28 PP5V, 29 PP5V, 30 GPIO7, 31 GPIO6, 32 VIN_3V3, EP

## TPS26630
designator U?, comment TPS26630RGET
Power Limiting Surge Protection Industrial eFuse 6A 4.5V to 60V 24-Pin VQFN T/R; Manufacturer: Texas Instruments; Manufacturer Lifecycle Status: ACTIVE; Max Junction Temperature (Tj): 125°C; Nominal Supply Current: 1.38mA; Number of Outputs: 1; Supplier 1: DigiKey; Supplier Part Number 1: 296-TPS26630RGETCT-ND; Supplier: DigiKey; Supplier Part Number: 296-TPS26630RGETCT-ND; Manufacturer Part Number: TPS26630RGET; RoHS: Compliant; Category: Power Management ICs; Stock: 2430; Pricing: 1=4,29, 10=3,249, 25=2,9892, 100=2,7038 (USD); Case/Package: VQFN; Height: 1mm; Length: 4mm; Lifecycle Status: Production; Max Operating Temperature: 125°C; Max Supply Voltage: 60V; Min Operating Temperature: -40°C; Min Supply Voltage: 4.5V; Pins: 24; Schedule B: 8542390000, 8542390000|8542390000|8542390000|8542390000|8542390000; Thickness: 880µm; Width: 4mm; ComponentLink1URL: https://octopart.com:443/opatz8j6/c1?t=Zg3XTK410tyg2HukzQeSSUDOC0Du9DWnDXqRCcuSQtm421eJ6ula51JB5EHwXrROz-ryDKiwFWnYaCH1NbztxZROGyMjPiBBUHvTjyII0Il73WQu7E7Kxx8aIjIxwTnAywKSSBYUKVdQShqMFkRNNvecHQ10WvLYQuvPUU-Un86c0vX2_IwgK6fP5q5SeACoNdVSKa0qr_n3YcYIl9YSY7DyH-10rqSfVw1OFpatOWDKE_5ll4JqrZbzWG86-aerVnIN-Bt2v19TsXg4jOL0-JBoKiMSgHiIybfKHoRzT3RayfmPS2vJWF9KUDSZSO4i4Dvb6Xaq5A0uXwoL7MN7HiUOABsUZW5Y3uttu0xvnsqNKhvH4zFAFs8BBETfS5Of6q8lbA&src-supplier=Texas+Instruments; ComponentLink1Description: https://octopart.com:443/opatz8j6/c1?t=Zg3XTK410tyg2HukzQeSSUDOC0Du9DWnDXqRCcuSQtm421eJ6ula51JB5EHwXrROz-ryDKiwFWnYaCH1NbztxZROGyMjPiBBUHvTjyII0Il73WQu7E7Kxx8aIjIxwTnAywKSSBYUKVdQShqMFkRNNvecHQ10WvLYQuvPUU-Un86c0vX2_IwgK6fP5q5SeACoNdVSKa0qr_n3YcYIl9YSY7DyH-10rqSfVw1OFpatOWDKE_5ll4JqrZbzWG86-aerVnIN-Bt2v19TsXg4jOL0-JBoKiMSgHiIybfKHoRzT3RayfmPS2vJWF9KUDSZSO4i4Dvb6Xaq5A0uXwoL7MN7HiUOABsUZW5Y3uttu0xvnsqNKhvH4zFAFs8BBETfS5Of6q8lbA&src-supplier=Texas+Instruments; ComponentLink2URL: https://sigma.octopart.com:443/102096900/technical_drawing/Texas-Instruments-TPS26630RGET.pdf?src-supplier=Texas+Instruments; ComponentLink2Description: https://sigma.octopart.com:443/102096900/technical_drawing/Texas-Instruments-TPS26630RGET.pdf?src-supplier=Texas+Instruments; ComponentLink3URL: https://datasheet.octopart.com:443/TPS26630RGET-Texas-Instruments-datasheet-148393552.pdf?src-supplier=Upverter; ComponentLink3Description: https://datasheet.octopart.com:443/TPS26630RGET-Texas-Instruments-datasheet-148393552.pdf?src-supplier=Upverter; ComponentLink4URL: https://datasheet.octopart.com:443/TPS26630RGET-Texas-Instruments-datasheet-164420235.pdf?src-supplier=SHENGYU+ELECTRONICS; ComponentLink4Description: https://datasheet.octopart.com:443/TPS26630RGET-Texas-Instruments-datasheet-164420235.pdf?src-supplier=SHENGYU+ELECTRONICS; ComponentLink5URL: http://sigma.octopart.com:80/reach_statement/Texas-Instruments-company-64.pdf?src-supplier=Compliance+Statements; ComponentLink5Description: http://sigma.octopart.com:80/reach_statement/Texas-Instruments-company-64.pdf?src-supplier=Compliance+Statements; ComponentLink6URL: http://sigma.octopart.com:80/conflict_mineral_statement/Texas-Instruments-company-63.pdf?src-supplier=Compliance+Statements; ComponentLink6Description: http://sigma.octopart.com:80/conflict_mineral_statement/Texas-Instruments-company-63.pdf?src-supplier=Compliance+Statements
footprint VQFN24 (VQFN, 16-Leads, Body 4x4mm)
pins: 1 IN, 2 IN, 3 B_GATE, 4 DRV, 5 IN_SYS, 6 UVLO, 7 OVP, 8 GND, 9 dVdT, 10 ILIM, 11 MODE, 12 ~{SHDN}, 13 IMON, 14 ~{FLT}, 15 PGTH, 16 PGOOD, 17 OUT, 18 OUT, 19 N/C, 20 N/C, 21 N/C, 22 N/C, 23 N/C, 24 N/C, EP

## TPS63070
designator U?, comment TPS63070RNMT
Wide input voltage (2V-16V) buck-boost converter 15-VQFN-HR -40 to 125; Manufacturer: Texas Instruments; Manufacturer Lifecycle Status: ACTIVE; Max Duty Cycle: 100%; Max Supply Voltage: 16V; Max Junction Temperature (Tj): 125°C; Max Output Voltage: 9V; Min Input Voltage: 2V; Min Output Voltage: 2.5V; Number of Outputs: 1; Output Current: 2A; Quiescent Current: 50µA; Switching Frequency: 2.4MHz; Supplier 1: DigiKey; Supplier Part Number 1: 296-44764-1-ND; Supplier: DigiKey; Supplier Part Number: 296-44764-1-ND; Manufacturer Part Number: TPS63070RNMT; RoHS: Compliant; Category: Voltage Regulators - Switching; Stock: 5312; Pricing: 1=3,53, 10=2,659, 25=2,4404, 100=2,2002 (USD); Height: 1mm; Lead Free: Lead Free; Length: 3mm; Lifecycle Status: Production; Max Operating Temperature: 125°C; Min Operating Temperature: -40°C; Min Supply Voltage: 2V; Pins: 15; Output Voltage: 2.5V; Packaging: Cut Tape; REACH SVHC: No; Schedule B: 8542390000, 8542390000|8542390000|8542390000|8542390000|8542390000; Thickness: 900µm; Topology: Buck-Boost; Width: 2.5mm; ComponentLink1URL: https://octopart.com:443/opatz8j6/c1?t=x8jQSxLy0dmw8UKfxefWCcxHnySSVJmQc_pBsvMPfzQfCKHfJdlg0dnjeEjVCFbmNnB2SQz67_XqBf_-dwEjLZpecXlSdouMy_C-ZSO6e-c2cJiCpYStpgtclWa9J7t6VRl7f7L8hfbgTfuzKUFzReoDHQzV4pbg13-mM7s_adYKptQZ49G_yxBQfrpu4LB13liiBXPU-N6zCIabTEyMI3cJnbXZavKtdeRTPGKKoOSp1lBO5nUg-UpDVDC_Z7VAhM8i0J_XMt2_rcqvqwRtOyl1DnBoVXEBabGIV5OoK-UuPEDYNZFQ9DACPMpO5HZNac0GKzADCHLz1NFSSD5cEiNO4orrsQtDIBIZhABOcM7Bb-yLccfE1e6tDjzRT5wFH9mXqEQ&src-supplier=Texas+Instruments; ComponentLink1Description: https://octopart.com:443/opatz8j6/c1?t=x8jQSxLy0dmw8UKfxefWCcxHnySSVJmQc_pBsvMPfzQfCKHfJdlg0dnjeEjVCFbmNnB2SQz67_XqBf_-dwEjLZpecXlSdouMy_C-ZSO6e-c2cJiCpYStpgtclWa9J7t6VRl7f7L8hfbgTfuzKUFzReoDHQzV4pbg13-mM7s_adYKptQZ49G_yxBQfrpu4LB13liiBXPU-N6zCIabTEyMI3cJnbXZavKtdeRTPGKKoOSp1lBO5nUg-UpDVDC_Z7VAhM8i0J_XMt2_rcqvqwRtOyl1DnBoVXEBabGIV5OoK-UuPEDYNZFQ9DACPMpO5HZNac0GKzADCHLz1NFSSD5cEiNO4orrsQtDIBIZhABOcM7Bb-yLccfE1e6tDjzRT5wFH9mXqEQ&src-supplier=Texas+Instruments; ComponentLink2URL: https://datasheet.octopart.com:443/TPS63070RNMT-Texas-Instruments-datasheet-99731598.pdf?src-supplier=Newark; ComponentLink2Description: https://datasheet.octopart.com:443/TPS63070RNMT-Texas-Instruments-datasheet-99731598.pdf?src-supplier=Newark; ComponentLink3URL: https://datasheet.octopart.com:443/TPS63070RNMT-Texas-Instruments-datasheet-81454394.pdf?src-supplier=Farnell; ComponentLink3Description: https://datasheet.octopart.com:443/TPS63070RNMT-Texas-Instruments-datasheet-81454394.pdf?src-supplier=Farnell; ComponentLink4URL: https://datasheet.octopart.com:443/TPS63070RNMT-Texas-Instruments-datasheet-67294913.pdf?src-supplier=element14+APAC; ComponentLink4Description: https://datasheet.octopart.com:443/TPS63070RNMT-Texas-Instruments-datasheet-67294913.pdf?src-supplier=element14+APAC; ComponentLink5URL: https://datasheet.octopart.com:443/TPS63070RNMT-Texas-Instruments-datasheet-159118225.pdf?src-supplier=LCSC; ComponentLink5Description: https://datasheet.octopart.com:443/TPS63070RNMT-Texas-Instruments-datasheet-159118225.pdf?src-supplier=LCSC; ComponentLink6URL: https://datasheet.octopart.com:443/TPS63070RNMT-Texas-Instruments-datasheet-140571939.pdf?src-supplier=Arrow.cn; ComponentLink6Description: https://datasheet.octopart.com:443/TPS63070RNMT-Texas-Instruments-datasheet-140571939.pdf?src-supplier=Arrow.cn; ComponentLink7URL: http://sigma.octopart.com:80/reach_statement/Texas-Instruments-company-64.pdf?src-supplier=Compliance+Statements; ComponentLink7Description: http://sigma.octopart.com:80/reach_statement/Texas-Instruments-company-64.pdf?src-supplier=Compliance+Statements; ComponentLink8URL: http://sigma.octopart.com:80/conflict_mineral_statement/Texas-Instruments-company-63.pdf?src-supplier=Compliance+Statements; ComponentLink8Description: http://sigma.octopart.com:80/conflict_mineral_statement/Texas-Instruments-company-63.pdf?src-supplier=Compliance+Statements
footprint VQFN15-HR (VQFN, 32-Leads, Body 2.5x3mm)
pins: 1 PS/SYNC, 2 PG, 3 VAUX, 4 GND, 5 FB, 6 FB2, 7/8 VOUT, 9 L2, 10 PGND, 11 L1, 12/13 VIN, 14 EN, 15 VSEL

## TPS552892QWRYQRQ1
designator U?, comment 296-TPS552892QWRYQRQ1CT-ND
IC REG BUCK BOOST ADJ 8A 21VQFN; Manufacturer: Texas Instruments; Topology: 6153TopologyType; Supplier: Digikey; Supplier Part Number: 296-TPS552892QWRYQRQ1CT-ND; Manufacturer Part Number: TPS552892QWRYQRQ1; RoHS: No; Pricing: 1=6,57, 10=5,055, 25=4,6752, 100=4,2584, 250=4,0596, 500=3,93982, 1000=3,84122, 3000=3,71945 (USD); Pins: 21NUMBER; Length: 5mm; Width: 3mm; Thickness: 900um; Supplier 1: Digikey; Supplier Part Number 1: 296-TPS552892QWRYQRQ1CT-ND
footprint TPS552892 (PLASTIC QUAD FLATPACK - NO LEAD / 3 x 5mm, 0.5mm pitch)
pins: 1 EN/UVLO, 2 MODE, 3 PG, 4 ~{CC}, 5 DITH/SYNC, 6 FSW, 7 VIN, 8 SW1, 9 PGND, 10 SW2, 11 VOUT, 12 ISP, 13 ISN, 14 FB, 15 COMP, 16 CDC, 17 AGND, 18 VCC, 19 BOOT2, 20 BOOT1, 21 EXTVCC

## TSZ124IQ4T
designator U?, comment TLV9354IDR
TSZ124 Series 5.5V 400 kHz Rail to Rail SMT Operational Amplifier - TSSOP-14; Manufacturer: STMicroelectronics; Manufacturer Part Number: TSZ124IQ4T; Bandwidth: 400kHz; Common Mode Rejection Ratio: 115dB; Input Bias Current: 200pA; Input Offset Voltage (Vos): 8µV; Max Supply Current: 40µA; Max Supply Voltage: 6V; Min Supply Voltage: 1.8V; Nominal Supply Current: 31µA; Number of Channels: 4; Operating Supply Voltage: 3.3V; Output Current: 17mA; Output Current per Channel: 18mA; Slew Rate: 0.19V/µs; Voltage Gain: 135dB; Supplier 1: DigiKey; Supplier Part Number 1: 497-14337-1-ND; Supplier: DigiKey; Supplier Part Number: 497-14337-1-ND; RoHS: Compliant; Category: Amplifiers - Op Amps, Buffer, Instrumentation; Stock: 10565; Pricing: 1=1,86, 10=1,367, 25=1,2444, 100=1,1092, 250=1,0448, 500=1,00596, 1000=0,97398 (USD); Case/Package: QFN; China RoHS: Compliant; Gain Bandwidth Product: 400kHz; Height - Seated (Max): 1mm; Length: 3mm; Lifecycle Status: Production; Max Operating Temperature: 125°C; Min Operating Temperature: -40°C; Mounting Technology: Surface Mount; Number of Circuits: 4; Pins: 16; Number of Terminals: 4; Operating Supply Current: 31µA; Packaging: Tape and Reel; REACH SVHC: Yes; Schedule B: 8542330000, 8542330000|8542330000|8542330000|8542330000|8542330000; Terminal Pitch: 500µm; Unity Gain Bandwidth Product: 400kHz; Width: 3mm; ComponentLink1URL: https://datasheet.octopart.com:443/TSZ124IQ4T-STMicroelectronics-datasheet-62337710.pdf?src-supplier=Future+Electronics; ComponentLink1Description: https://datasheet.octopart.com:443/TSZ124IQ4T-STMicroelectronics-datasheet-62337710.pdf?src-supplier=Future+Electronics; ComponentLink2URL: https://datasheet.octopart.com:443/TSZ124IQ4T-STMicroelectronics-datasheet-16350222.pdf?src-supplier=STMicroelectronics; ComponentLink2Description: https://datasheet.octopart.com:443/TSZ124IQ4T-STMicroelectronics-datasheet-16350222.pdf?src-supplier=STMicroelectronics; ComponentLink3URL: https://datasheet.octopart.com:443/TSZ124IQ4T-STMicroelectronics-datasheet-140259870.pdf?src-supplier=Farnell; ComponentLink3Description: https://datasheet.octopart.com:443/TSZ124IQ4T-STMicroelectronics-datasheet-140259870.pdf?src-supplier=Farnell; ComponentLink4URL: https://datasheet.octopart.com:443/TSZ124IQ4T-STMicroelectronics-datasheet-159009515.pdf?src-supplier=SHENGYU+ELECTRONICS; ComponentLink4Description: https://datasheet.octopart.com:443/TSZ124IQ4T-STMicroelectronics-datasheet-159009515.pdf?src-supplier=SHENGYU+ELECTRONICS; ComponentLink5URL: https://datasheet.octopart.com:443/TSZ124IQ4T-STMicroelectronics-datasheet-165583692.pdf?src-supplier=TME; ComponentLink5Description: https://datasheet.octopart.com:443/TSZ124IQ4T-STMicroelectronics-datasheet-165583692.pdf?src-supplier=TME
footprint VQFN16 (VQFN, 16-Leads, Body 3.5x3.5mm)
part A pins: 1 15, 1 1IN+, 16 1IN-
part B pins: 4 2IN+, 5 2IN-, 6 2OUT
part C pins: 7 3OUT, 8 3IN-, 9 3IN+
part D pins: 12 4IN+, 13 4IN-, 14 4OUT
part E pins: 2 VCC (power), 3 NC (power), 10 NC (power), 11 VCC- (power), EP NC (power)

## TYS6045100M-10
designator L?, comment 10uH
FIXED IND 10UH 2.45A 48 MOHM SMD; Manufacturer: Laird Steward; Manufacturer Part Number: TYS6045100M-10; ComponentLink1URL: http://www.mouser.com/ds/2/223/SIP-DS-TYS%206045%200413-558564.pdf?src-supplier=Mouser; ComponentLink1Description: http://www.mouser.com/ds/2/223/SIP-DS-TYS%206045%200413-558564.pdf?src-supplier=Mouser; ComponentLink2URL: http://assets.lairdtech.com/home/brandworld/files/TYS6045220M-10.pdf?src-supplier=Digi-Key; ComponentLink2Description: http://assets.lairdtech.com/home/brandworld/files/TYS6045220M-10.pdf?src-supplier=Digi-Key; Supplier: Digikey; Supplier Part Number: 240-2737-1-ND; RoHS: Yes; Category: Fixed Inductors; Stock: 6071; Pricing: 1=0,41, 10=0,337, 100=0,2774 (USD); RoHS Compliant: 5897YesNo; ComponentLink3URL: https://datasheet.ciiva.com/22622/1685889-22622963.pdf?src-supplier=Element14; ComponentLink3Description: https://datasheet.ciiva.com/22622/1685889-22622963.pdf?src-supplier=Element14; Supplier 1: Digikey; Supplier Part Number 1: 240-2737-1-ND; Inductance: 10uH
footprint TYS6045 (Footprint not found)
pins: 1, 2

## ZE05-2P-2H
designator P?
pins: 1, 2, M1, M2, M3, M4, M5, M6

## ZE05-4P-2H
designator P?
pins: 1, 2, 3, 4, M1, M2, M3, M4, M5, M6

## ZE05-5P-2H
designator P?
pins: 1, 2, 3, 4, 5, M1, M2, M3, M4, M5, M6

## ZE05-8P-2H
designator P?
pins: 1, 2, 3, 4, 5, 6, 7, 8, M1, M2, M3, M4, M5, M6